# Altium integrated library KB1.IntLib: 10 symbols
Pins are listed as number, name and electrical type; pins without a type are passive.

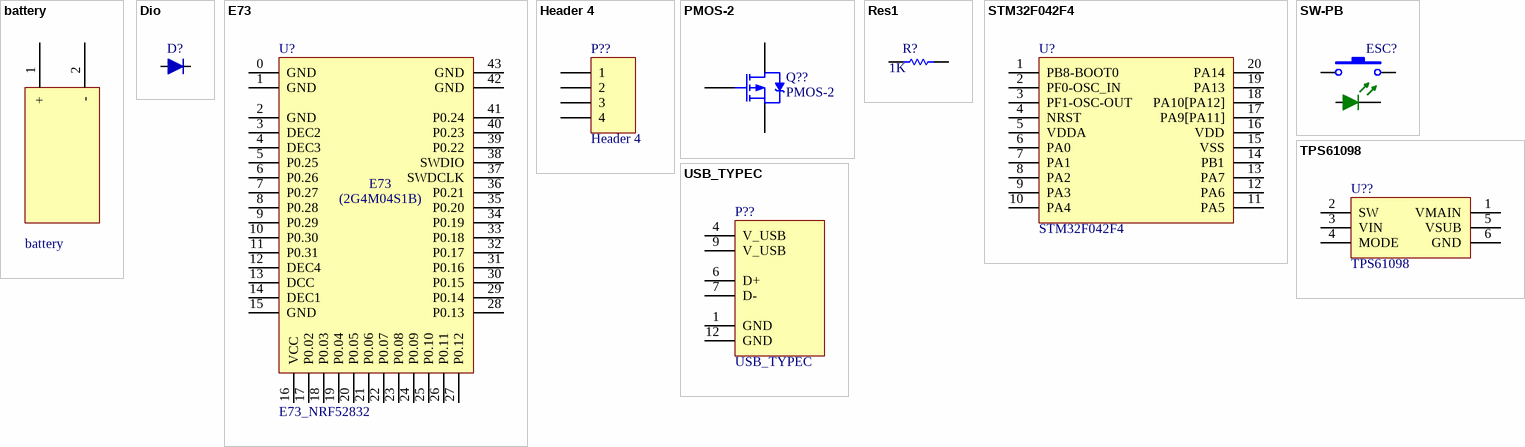
[diagram p0: symbols battery to USB_TYPEC]

## battery
designator *?
footprint AAA_battery_box_1
pins: 1 +, 2 -

## Dio
designator D?  (value not drawn)
footprint SMA(DO-214AC)_S5
pins: A, K

## E73
designator U?, comment E73_NRF52832
footprint PE73(2G4M04S1A) (28.7mm*17.5mm*2.60mm-S)
pins: 0 GND, 1 GND, 2 GND, 3 DEC2, 4 DEC3, 5 P0.25, 6 P0.26, 7 P0.27, 8 P0.28, 9 P0.29, 10 P0.30, 11 P0.31, 12 DEC4, 13 DCC, 14 DEC1, 15 GND, 16 VCC, 17 P0.02, 18 P0.03, 19 P0.04, 20 P0.05, 21 P0.06, 22 P0.07, 23 P0.08, 24 P0.09, 25 P0.10, 26 P0.11, 27 P0.12, 28 P0.13, 29 P0.14, 30 P0.15, 31 P0.16, 32 P0.17, 33 P0.18, 34 P0.19, 35 P0.20, 36 P0.21, 37 SWDCLK, 38 SWDIO, 39 P0.22, 40 P0.23, 41 P0.24, 42 GND, 43 GND
text: (2G4M04S1B)

## Header 4
designator P??
Header, 4-Pin; LatestRevisionDate: 17-Jul-2002; LatestRevisionNote: Re-released for DXP Platform.; Publisher: Altium Limited
footprint HDR1X4 (Connector; Header; 4 Position)
signal-integrity model Connector
pins: 1, 2, 3, 4

## PMOS-2
designator Q??
P-Channel Power MOSFET; Note: Pin 4 not drawn and electrically connected to Pin 2.; Published: 8-Jun-2000; LatestRevisionDate: 17-Jul-2002; LatestRevisionNote: Re-released for DXP Platform.; DatasheetVersion: PD-9.390D; PackageVersion: Feb-1997; PackageReference: TO-220AB; Publisher: Altium Limited; PackageDescription: TO, Thru-Hole, Vertical, Heatsink Mounted; 3 In-Line Leads; Pitch 2.54 mm; ComponentLink1Description: Manufacturer Link; ComponentLink1URL: http://www.irf.com/
footprint TO-220AB (TO, Thru-Hole, Vertical, Heatsink Mounted; 3 In-Line Leads; Pitch 2.54 mm)
simulation model IRF9510 (Spice Subcircuit)
pins: 1 G, 2 D, 3 S

## Res1
designator R?  value 1K  (hidden comment: Res1)
Resistor; Published: 8-Jun-2000; LatestRevisionDate: 17-Jul-2002; LatestRevisionNote: Re-released for DXP Platform.; PackageReference: AXIAL-0.3; Publisher: Altium Limited; PackageDescription: Axial Device, Thru-Hole; 2 Leads; 0.3 in Pin Spacing
footprint AXIAL-0.3 (Axial Device, Thru-Hole; 2 Leads; 0.3 in Pin Spacing)
simulation model RESISTOR (Resistor)
signal-integrity model Res
footprint 6-0805_N (Chip Resistor, Body 2.0x1.2mm, IPC Medium Density)
pins: 1, 2

## STM32F042F4
designator U?
footprint TSSOP-20
pins: 1 PB8-BOOT0, 2 PF0-OSC_IN, 3 PF1-OSC-OUT, 4 NRST, 5 VDDA, 6 PA0, 7 PA1, 8 PA2, 9 PA3, 10 PA4, 11 PA5, 12 PA6, 13 PA7, 14 PB1, 15 VSS, 16 VDD, 17 PA9[PA11], 18 PA10[PA12], 19 PA13, 20 PA14

## SW-PB
designator ESC?  (value not drawn)
Switch; Published: 24-Mar-1999; LatestRevisionDate: 17-Jul-2002; LatestRevisionNote: Re-released for DXP Platform.; PackageReference: SPST-2; Publisher: Altium Limited; PackageDescription: Switch; 2 Leads
footprint SPST-2 (Switch; 2 Leads)
footprint mxkey
pins: 1, 2, A, K

## TPS61098
designator U??
footprint SON-6N (SON, 6-Leads, Body 1.50x1.50mm, Pitch 0.50mm, IPC Medium Density)
pins: 1 VMAIN, 2 SW, 3 VIN, 4 MODE, 5 VSUB, 6 GND

## USB_TYPEC
designator P??
footprint Type-c
pins: 1 GND, 4 V_USB, 6 D+, 7 D-, 9 V_USB, 12 GND